# EAGLE library part PAM8008 (library Dennistries-Josh)
PAM8008
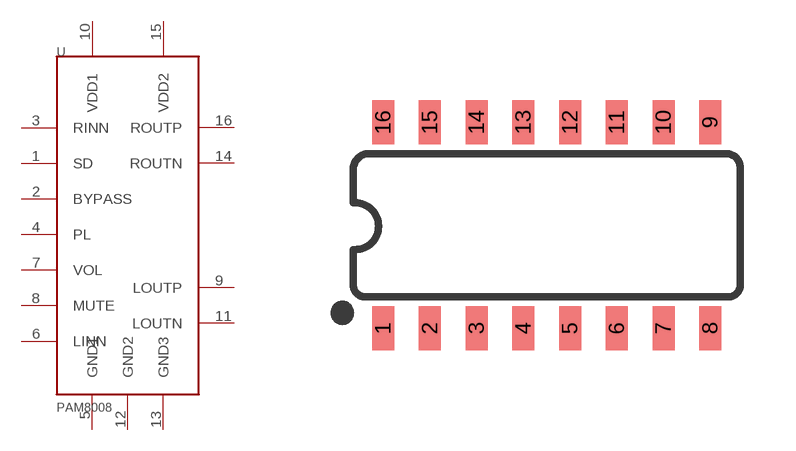
[diagram p8: symbol with the pads of SO16; footprint SO16]

Designator prefix -

## PAM8008  [SO16]
1  SD
2  BYPASS
3  RINN
4  PL
5  GND1
6  LINN
7  VOL
8  MUTE
9  LOUTP
10  VDD1
11  LOUTN
12  GND2
13  GND3
14  ROUTN
15  VDD2
16  ROUTP

## Footprint SO16 (pad centres in mm)
SOIC, 0.15 inch width
smd 0.6 x 1.2: 1 -4.445,-2.8; 2 -3.175,-2.8; 3 -1.905,-2.8; 4 -0.635,-2.8; 5 0.635,-2.8; 6 1.905,-2.8; 7 3.175,-2.8; 8 4.445,-2.8; 9 4.445,2.8; 10 3.175,2.8; 11 1.905,2.8; 12 0.635,2.8; 13 -0.635,2.8; 14 -1.905,2.8; 15 -3.175,2.8; 16 -4.445,2.8